# Altium footprint library cSLIM-SA.PcbLib: 21 footprints (part 2 of 2)
Each footprint in its own frame and in the unit in brackets; x right, y up, seen from the top. Pads: shape width x height; smd on the part's side, far side on the other; paste and mask are expansions set on the pad; w line width, h text height; cw(c..) or ccw(c..) is an arc to the next point about the centre after c.
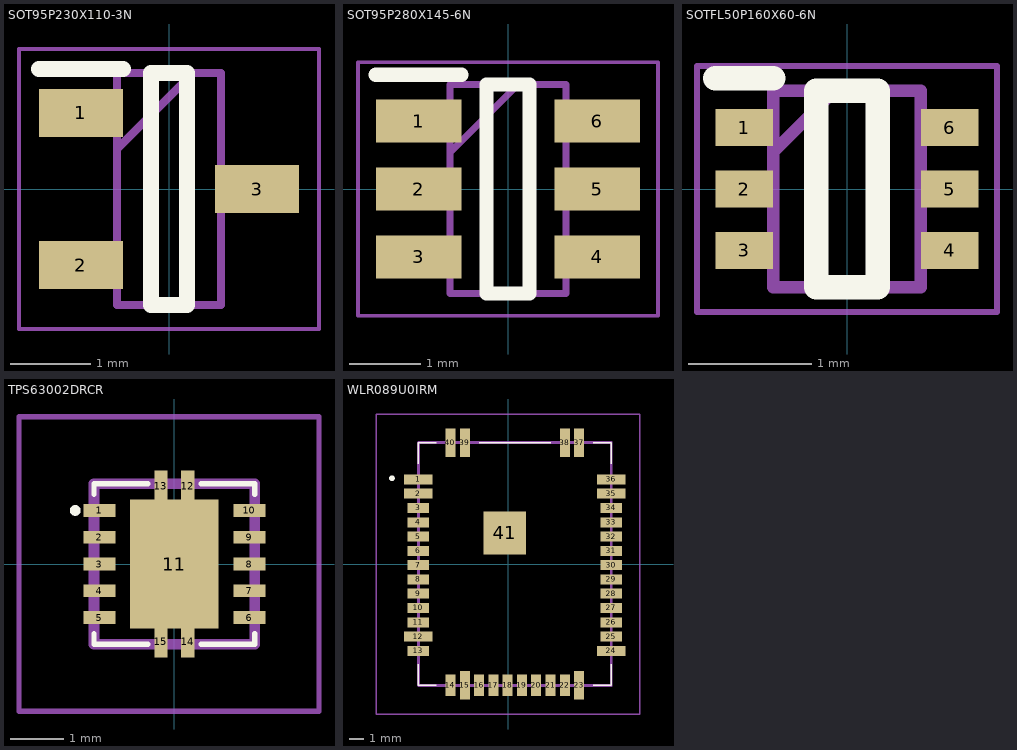
[diagram p1: the footprints below, top view; thin cyan lines are the x and y axes]

## SOT95P230X110-3N [mm]
pads (3):
  rect 1.05x0.6 smd: 1(-1.1,0.95) 2(-1.1,-0.95) 3(1.1,0)
Top Overlay:
  lines w0.2: -1.625,1.5 -0.575,1.5 ; -0.225,-1.45 0.225,-1.45 0.225,1.45 -0.225,1.45 -0.225,-1.45
Mechanical 13:
  lines w0.1: -0.65,0.5 0.3,1.45 ; -0.65,-1.45 0.65,-1.45 0.65,1.45 -0.65,1.45 -0.65,-1.45
Mechanical 15:
  lines w0.05: -1.875,-1.75 1.875,-1.75 1.875,1.75 -1.875,1.75 -1.875,-1.75
3D body "NX2301P,215.stp": height 0.95, standoff 0, extent -1.201,-1.448 1.199,1.452

## SOT95P280X145-6N [mm]
pads (6):
  rect 1.2x0.6 smd: 1(-1.25,0.95) 2(-1.25,0) 3(-1.25,-0.95) 4(1.25,-0.95) 5(1.25,0) 6(1.25,0.95)
Top Overlay:
  lines w0.2: -1.85,1.6 -0.65,1.6 ; -0.3,-1.462 0.3,-1.462 0.3,1.462 -0.3,1.462 -0.3,-1.462
Mechanical 13:
  lines w0.1: -0.812,0.512 0.138,1.462 ; -0.812,-1.462 0.812,-1.462 0.812,1.462 -0.812,1.462 -0.812,-1.462
Mechanical 15:
  lines w0.05: -2.1,-1.775 2.1,-1.775 2.1,1.775 -2.1,1.775 -2.1,-1.775
3D body "USBLC6-2SC6.stp": height 1.45, standoff 0, extent -1.4,-1.462 1.4,1.462

## SOTFL50P160X60-6N [mm]
pads (6):
  rect 0.47x0.3 smd: 1(-0.835,0.5) 2(-0.835,0) 3(-0.835,-0.5) 4(0.835,-0.5) 5(0.835,0) 6(0.835,0.5)
Top Overlay:
  lines w0.2: -1.07,0.9 -0.6,0.9 ; -0.25,-0.8 0.25,-0.8 0.25,0.8 -0.25,0.8 -0.25,-0.8
Mechanical 13:
  lines w0.1: -0.6,0.3 -0.1,0.8 ; -0.6,-0.8 0.6,-0.8 0.6,0.8 -0.6,0.8 -0.6,-0.8
Mechanical 15:
  lines w0.05: -1.22,-1 1.22,-1 1.22,1 -1.22,1 -1.22,-1
3D body "SI1040X-T1-GE3.stp": height 0.6, standoff 0, extent -0.8,-0.8 0.8,0.8

## TPS63002DRCR [mm]
pads (15):
  rect 0.6x0.24 smd: 1(-1.4,1) 2(-1.4,0.5) 3(-1.4,0) 4(-1.4,-0.5) 5(-1.4,-1) 6(1.4,-1) 7(1.4,-0.5) 8(1.4,0) 9(1.4,0.5) 10(1.4,1)
  rect 1.65x2.4 smd: 11(0,0)
  rect 0.25x0.6 smd: 12(0.25,1.45) 13(-0.25,1.45) 14(0.25,-1.45) 15(-0.25,-1.45)
Top Overlay:
  lines w0.1: -1.5,-1.3 -1.5,-1.5 -0.5,-1.5 ; -1.5,1.3 -1.5,1.5 -0.5,1.5 ; 0.5,-1.5 1.5,-1.5 1.5,-1.3 ; 0.5,1.5 1.5,1.5 1.5,1.3 ; -1.9,1 cw(c-1.85,1) -1.8,1 cw(c-1.85,1) -1.9,1
Mechanical 13:
  lines w0.2: -1.5,-1.5 -1.5,1.5 1.5,1.5 1.5,-1.5 -1.5,-1.5
Mechanical 15:
  lines w0.1: -2.9,-2.75 -2.9,2.75 2.7,2.75 2.7,-2.75 -2.9,-2.75
3D body "TPS63000DRCR.stp": height 1, standoff 0, extent -1.5,-1.5 1.5,1.5

## WLR089U0IRM [mm]
pads (41):
  rect 2x0.7 smd: 1(-6.275,5.92) 2(-6.275,4.92) 12(-6.275,-5.08) 24(7.225,-6.08) 35(7.225,4.92) 36(7.225,5.92)
  rect 1.5x0.7 smd: 3(-6.275,3.92) 4(-6.275,2.92) 5(-6.275,1.92) 6(-6.275,0.92) 7(-6.275,-0.08) 8(-6.275,-1.08) 9(-6.275,-2.08) 10(-6.275,-3.08) 11(-6.275,-4.08) 13(-6.275,-6.08) 25(7.225,-5.08) 26(7.225,-4.08) 27(7.225,-3.08) 28(7.225,-2.08) 29(7.225,-1.08) 30(7.225,-0.08) 31(7.225,0.92) 32(7.225,1.92) 33(7.225,2.92) 34(7.225,3.92)
  rect 0.7x1.5 smd: 14(-4.025,-8.5) 16(-2.025,-8.5) 17(-1.025,-8.5) 18(-0.025,-8.5) 19(0.975,-8.5) 20(1.975,-8.5) 21(2.975,-8.5) 22(3.975,-8.5)
  rect 0.7x2 smd: 15(-3.025,-8.5) 23(4.975,-8.5) 37(4.975,8.5) 38(3.975,8.5) 39(-3.025,8.5) 40(-4.025,8.5)
  rect 3x3.03 smd: 41(-0.225,2.17)
Top Overlay:
  lines w0.1: -6.275,-7 -6.275,-8.5 -5.025,-8.5 ; -6.275,7 -6.275,8.5 -5.025,8.5 ; -2.025,8.5 2.975,8.5 ; 5.975,-8.5 7.225,-8.5 7.225,-7 ; 5.975,8.5 7.225,8.5 7.225,7
  lines w0.2: -8.225,6 cw(c-8.125,6) -8.025,6 cw(c-8.125,6) -8.225,6
Mechanical 13:
  lines w0.2: -6.275,-8.5 7.225,-8.5 7.225,8.5 -6.275,8.5 -6.275,-8.5
Mechanical 15:
  lines w0.1: -9.225,-10.5 9.225,-10.5 9.225,10.5 -9.225,10.5 -9.225,-10.5
3D body "WLR089U0-I_RM.stp": height 2.9, standoff 0, extent -6.275,-8.5 7.225,8.5